# Altium schematic symbol library PUMZ2.SchLib: 1 symbol
Pins are listed as number, name and electrical type; pins without a type are passive.

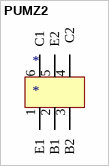
[diagram p0: symbol PUMZ2]

## PUMZ2
designator *
footprint PUMZ2
pins: 1 E1, 2 B1, 3 B2, 4  C2, 5 E2, 6 C1